# Altium schematic symbol library Diode.SchLib: 1 symbol
Pins are listed as number, name and electrical type; pins without a type are passive.

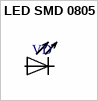
[diagram p0: symbol LED SMD 0805]

## LED SMD 0805
designator VD  (value not drawn)
footprint Led Diode 0805 (Chip Diode, 2-Leads, Body 2,05x1,25mm, IPC Medium Density)
pins: A, K